# Altium schematic symbol library MftrFeature.SchLib: 3 symbols
Pins are listed as number, name and electrical type; pins without a type are passive.

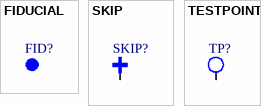
[diagram p0: symbols FIDUCIAL to TESTPOINT]

## FIDUCIAL
designator FID?  (value not drawn)
Alignment fiducial
footprint FID08 (0.8mm diameter fiducial, 1.8mm keepout)

## SKIP
designator SKIP?, comment X-Out/Skip Mark  (value not drawn)
X-Out/Skip Mark for bad board/do not populate
footprint SKIP20 (Skip Mark, 2.0mm width)
footprint SKIP20-NOCOPPER (Skip Mark, 2.0mm width, no copper)
pins: 1 "Skip"

## TESTPOINT
designator TP?  (value not drawn)  (no BOM)
footprint TP08 (0.8mm Testpoint)
pins: 1 "Testpoint"